# EAGLE library part AVRISP6PIN (library avrisp)
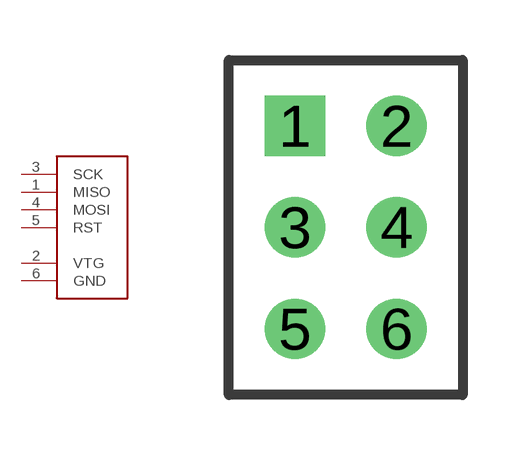
[diagram p0: symbol with the pads of 6PIN; footprint 6PIN]

Designator prefix X

## AVRISP6PIN  [6PIN]
1  MISO
2  VTG
3  SCK
4  MOSI
5  RST
6  GND

## Footprint 6PIN (pad centres in mm)
drill 1 square: 1 -1.27,2.54
drill 1 round: 2 1.27,2.54; 3 -1.27,0; 4 1.27,0; 5 -1.27,-2.54; 6 1.27,-2.54